# Altium schematic symbol library slide_switch.SchLib: 2 symbols
Pins are listed as number, name and electrical type; pins without a type are passive.

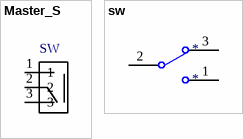
[diagram p0: symbols Master_S to sw]

## Master_S
designator SW
Switch Slide ON ON SPDT Top Slide 0.1A 12VDC 10000Cycles PC Pins Thru-Hole Bulk; MF: C&K Components; Package: DO-201 C&amp;K Components; Price: 0.29 USD; SnapEDA_Link: https://www.snapeda.com/parts/OS102011MS2QN1/C%26K%20Components/view-part/?ref=snap; Availability: Good; Value: *
footprint SW_OS102011MS2QN1
pins: 1, 2, 3

## sw
designator *
footprint SW
pins: 1, 2, 3